# EAGLE library part L7985A (library st-microelectronics)
The L7985/A is a step-down switching regulator with a 2.5 A (minimum) current limited embedded power MOSFET, so it is able to deliver up to 2 A current to the load depending on the application conditions. The input voltage can range from 4.5 V to 38 V, while the output voltage can be set starting from 0.6 V to VIN. Requiring a minimum set of external components, the device includes an internal 250 kHz switching frequency oscillator that can be externally adjusted up to 1 MHz. The DFN and the HSOP packages with exposed pad allow the reduction of RthJA down to 60 °C/W and 40 °C/W respectively.
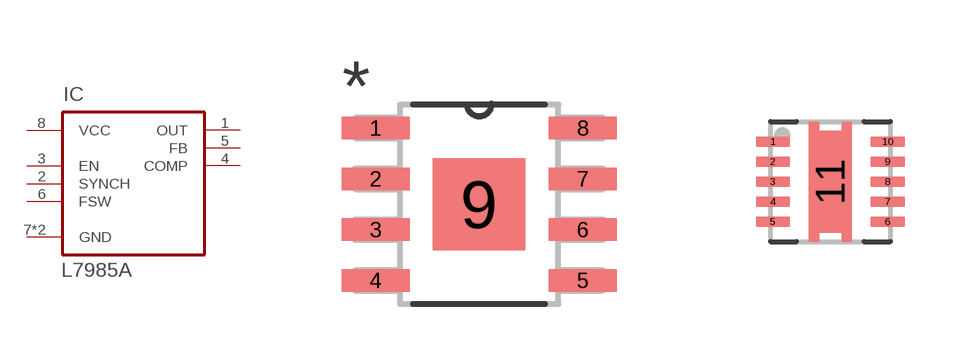
[diagram p1: symbol with the pads of HSOP8-PAD; footprints HSOP8-PAD, VFQFPN10]

Designator prefix IC

## L7985A (MPN: L7985A; OC_FARNELL: 2311340; OC_NEWARK: 86W0520; PACKAGE: HSOP8; SUPPLIER: STMicroelectronics)  [HSOP8-PAD]
1  OUT  sup
2  SYNCH  pas
3  EN  in
4  COMP  pas
5  FB  pas
6  FSW  pas
7  GND  pwr
8  VCC  pwr
9  GND  pwr

## L7985A"  [VFQFPN10]
1  OUT  sup
2  OUT  sup
3  SYNCH  pas
4  EN  in
5  COMP  pas
6  FB  pas
7  FSW  pas
8  GND  pwr
9  VCC  pwr
10  VCC  pwr
11  GND  pwr

## Footprint HSOP8-PAD (pad centres in mm)
smd 1.702 x 0.559: 1 -2.591,1.905; 2 -2.591,0.635; 3 -2.591,-0.635; 4 -2.591,-1.905; 5 2.591,-1.905; 6 2.591,-0.635; 7 2.591,0.635; 8 2.591,1.905
smd 2.311 x 2.311: 9 0,0

## Footprint VFQFPN10 (pad centres in mm)
smd 0.86 x 0.26: 1 -1.435,1; 2 -1.435,0.5; 3 -1.435,0; 4 -1.435,-0.5; 5 -1.435,-1; 6 1.435,-1; 7 1.435,-0.5; 8 1.435,0; 9 1.435,0.5; 10 1.435,1
smd 1.05 x 2.55: 11 0,0